# Altium schematic symbol library WR-WTB.SchLib: 242 symbols (part 5 of 5)
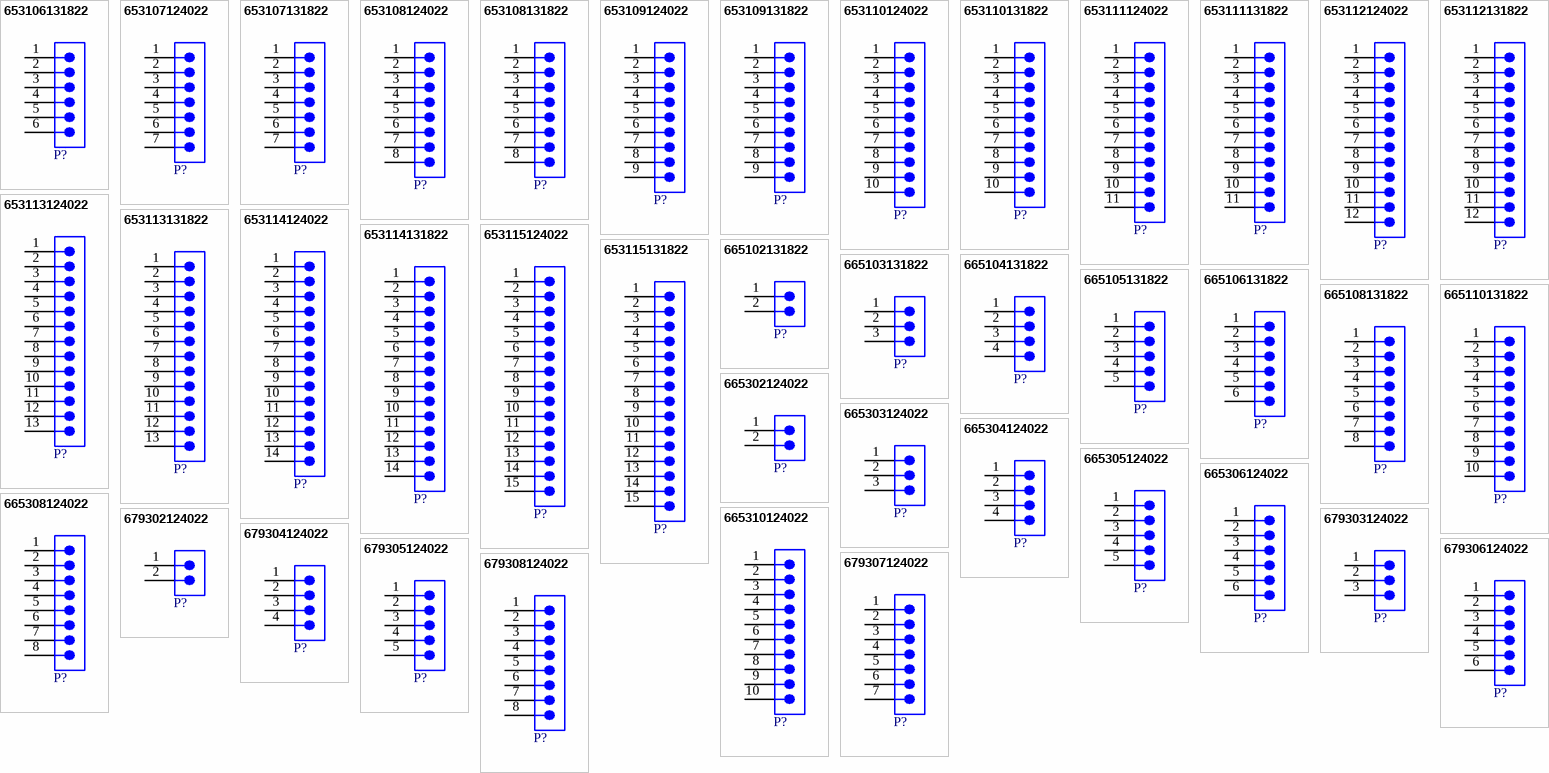
[diagram p10: symbols 653106131822 to 679308124022]

## 665108131822
designator P?  (value not drawn)
WR-WTB SMT Male Horizontal Shrouded Header, pitch 1mm, 8pins; Manufacturer: Wurth Elektronik; Contact Resistance: 20mΩ; Rated Current: 1A; Working Voltage: 50VAC; Withstanding Voltage: 500VAC; ComponentLink1Description: Website Link; ComponentLink1URL: https://www.we-online.com/redexpert/article/665108131822?ad; ComponentLink2Description: Datasheet Link; ComponentLink2URL: https://www.we-online.com/redexpert/spec/665108131822?ad; Manufacturer Part Number: 665108131822; Category: Wire-to-Board Connectors; Match Code: WR-WTB; Mount: Surface Mount; Operating Temperature Max: 85°C; Operating Temperature Min: -25°C; Packaging: Tape and Reel; Length: 10mm; Width: 4.95mm; Height: 2.9mm; Gender: Male; Number of Pins: 8; Number of Rows: 1; Orientation: Horizontal; Pitch: 1mm
footprint 665108131822
pins: 1, 2, 3, 4, 5, 6, 7, 8

## 665110131822
designator P?  (value not drawn)
WR-WTB SMT Male Horizontal Shrouded Header, pitch 1mm, 10pins; Manufacturer: Wurth Elektronik; Contact Resistance: 20mΩ; Rated Current: 1A; Working Voltage: 50VAC; Withstanding Voltage: 500VAC; ComponentLink1Description: Website Link; ComponentLink1URL: https://www.we-online.com/redexpert/article/665110131822?ad; ComponentLink2Description: Datasheet Link; ComponentLink2URL: https://www.we-online.com/redexpert/spec/665110131822?ad; Manufacturer Part Number: 665110131822; Category: Wire-to-Board Connectors; Match Code: WR-WTB; Mount: Surface Mount; Operating Temperature Max: 85°C; Operating Temperature Min: -25°C; Packaging: Tape and Reel; Length: 12mm; Width: 4.95mm; Height: 2.9mm; Gender: Male; Number of Pins: 10; Number of Rows: 1; Orientation: Horizontal; Pitch: 1mm
footprint 665110131822
pins: 1, 2, 3, 4, 5, 6, 7, 8, 9, 10

## 665302124022
designator P?  (value not drawn)
WR-WTB SMT Male Vertical Shrouded Header, pitch 1mm, 2pins; Manufacturer: Wurth Elektronik; Contact Resistance: 20mΩ; Rated Current: 1A; Working Voltage: 50VAC; Withstanding Voltage: 500VAC; ComponentLink1Description: Website Link; ComponentLink1URL: https://www.we-online.com/redexpert/article/665302124022?ad; ComponentLink2Description: Datasheet Link; ComponentLink2URL: https://www.we-online.com/redexpert/spec/665302124022?ad; Manufacturer Part Number: 665302124022; Category: Wire-to-Board Connectors; Match Code: WR-WTB; Mount: Surface Mount; Operating Temperature Max: 85°C; Operating Temperature Min: -25°C; Packaging: Tape and Reel; Length: 4mm; Width: 3.55mm; Height: 4.25mm; Gender: Male; Number of Pins: 2; Number of Rows: 1; Orientation: Vertical; Pitch: 1mm
footprint 665302124022
pins: 1, 2

## 665303124022
designator P?  (value not drawn)
WR-WTB SMT Male Vertical Shrouded Header, pitch 1mm, 3pins; Manufacturer: Wurth Elektronik; Contact Resistance: 20mΩ; Rated Current: 1A; Working Voltage: 50VAC; Withstanding Voltage: 500VAC; ComponentLink1Description: Website Link; ComponentLink1URL: https://www.we-online.com/redexpert/article/665303124022?ad; ComponentLink2Description: Datasheet Link; ComponentLink2URL: https://www.we-online.com/redexpert/spec/665303124022?ad; Manufacturer Part Number: 665303124022; Category: Wire-to-Board Connectors; Match Code: WR-WTB; Mount: Surface Mount; Operating Temperature Max: 85°C; Operating Temperature Min: -25°C; Packaging: Tape and Reel; Length: 5mm; Width: 3.55mm; Height: 4.25mm; Gender: Male; Number of Pins: 3; Number of Rows: 1; Orientation: Vertical; Pitch: 1mm
footprint 665303124022
pins: 1, 2, 3

## 665304124022
designator P?  (value not drawn)
WR-WTB SMT Male Vertical Shrouded Header, pitch 1mm, 4pins; Manufacturer: Wurth Elektronik; Contact Resistance: 20mΩ; Rated Current: 1A; Working Voltage: 50VAC; Withstanding Voltage: 500VAC; ComponentLink1Description: Website Link; ComponentLink1URL: https://www.we-online.com/redexpert/article/665304124022?ad; ComponentLink2Description: Datasheet Link; ComponentLink2URL: https://www.we-online.com/redexpert/spec/665304124022?ad; Manufacturer Part Number: 665304124022; Category: Wire-to-Board Connectors; Match Code: WR-WTB; Mount: Surface Mount; Operating Temperature Max: 85°C; Operating Temperature Min: -25°C; Packaging: Tape and Reel; Length: 6mm; Width: 3.55mm; Height: 4.25mm; Gender: Male; Number of Pins: 4; Number of Rows: 1; Orientation: Vertical; Pitch: 1mm
footprint 665304124022
pins: 1, 2, 3, 4

## 665305124022
designator P?  (value not drawn)
WR-WTB SMT Male Vertical Shrouded Header, pitch 1mm, 5pins; Manufacturer: Wurth Elektronik; Contact Resistance: 20mΩ; Rated Current: 1A; Working Voltage: 50VAC; Withstanding Voltage: 500VAC; ComponentLink1Description: Website Link; ComponentLink1URL: https://www.we-online.com/redexpert/article/665305124022?ad; ComponentLink2Description: Datasheet Link; ComponentLink2URL: https://www.we-online.com/redexpert/spec/665305124022?ad; Manufacturer Part Number: 665305124022; Category: Wire-to-Board Connectors; Match Code: WR-WTB; Mount: Surface Mount; Operating Temperature Max: 85°C; Operating Temperature Min: -25°C; Packaging: Tape and Reel; Length: 7mm; Width: 3.55mm; Height: 4.25mm; Gender: Male; Number of Pins: 5; Number of Rows: 1; Orientation: Vertical; Pitch: 1mm
footprint 665305124022
pins: 1, 2, 3, 4, 5

## 665306124022
designator P?  (value not drawn)
WR-WTB SMT Male Vertical Shrouded Header, pitch 1mm, 6pins; Manufacturer: Wurth Elektronik; Contact Resistance: 20mΩ; Rated Current: 1A; Working Voltage: 50VAC; Withstanding Voltage: 500VAC; ComponentLink1Description: Website Link; ComponentLink1URL: https://www.we-online.com/redexpert/article/665306124022?ad; ComponentLink2Description: Datasheet Link; ComponentLink2URL: https://www.we-online.com/redexpert/spec/665306124022?ad; Manufacturer Part Number: 665306124022; Category: Wire-to-Board Connectors; Match Code: WR-WTB; Mount: Surface Mount; Operating Temperature Max: 85°C; Operating Temperature Min: -25°C; Packaging: Tape and Reel; Length: 8mm; Width: 3.55mm; Height: 4.25mm; Gender: Male; Number of Pins: 6; Number of Rows: 1; Orientation: Vertical; Pitch: 1mm
footprint 665306124022
pins: 1, 2, 3, 4, 5, 6

## 665308124022
designator P?  (value not drawn)
WR-WTB SMT Male Vertical Shrouded Header, pitch 1mm, 8pins; Manufacturer: Wurth Elektronik; Contact Resistance: 20mΩ; Rated Current: 1A; Working Voltage: 50VAC; Withstanding Voltage: 500VAC; ComponentLink1Description: Website Link; ComponentLink1URL: https://www.we-online.com/redexpert/article/665308124022?ad; ComponentLink2Description: Datasheet Link; ComponentLink2URL: https://www.we-online.com/redexpert/spec/665308124022?ad; Manufacturer Part Number: 665308124022; Category: Wire-to-Board Connectors; Match Code: WR-WTB; Mount: Surface Mount; Operating Temperature Max: 85°C; Operating Temperature Min: -25°C; Packaging: Tape and Reel; Length: 10mm; Width: 3.55mm; Height: 4.25mm; Gender: Male; Number of Pins: 8; Number of Rows: 1; Orientation: Vertical; Pitch: 1mm
footprint 665308124022
pins: 1, 2, 3, 4, 5, 6, 7, 8

## 665310124022
designator P?  (value not drawn)
WR-WTB SMT Male Vertical Shrouded Header, pitch 1mm, 10pins; Manufacturer: Wurth Elektronik; Contact Resistance: 20mΩ; Rated Current: 1A; Working Voltage: 50VAC; Withstanding Voltage: 500VAC; ComponentLink1Description: Website Link; ComponentLink1URL: https://www.we-online.com/redexpert/article/665310124022?ad; ComponentLink2Description: Datasheet Link; ComponentLink2URL: https://www.we-online.com/redexpert/spec/665310124022?ad; Manufacturer Part Number: 665310124022; Category: Wire-to-Board Connectors; Match Code: WR-WTB; Mount: Surface Mount; Operating Temperature Max: 85°C; Operating Temperature Min: -25°C; Packaging: Tape and Reel; Length: 12mm; Width: 3.55mm; Height: 4.25mm; Gender: Male; Number of Pins: 10; Number of Rows: 1; Orientation: Vertical; Pitch: 1mm
footprint 665310124022
pins: 1, 2, 3, 4, 5, 6, 7, 8, 9, 10

## 679302124022
designator P?  (value not drawn)
WR-WTB SMT Male Vertical Shrouded Header, pitch 1.5mm, 2pins; Manufacturer: Wurth Elektronik; Contact Resistance: 20mΩ; Rated Current: 1A; Working Voltage: 50VAC; Withstanding Voltage: 500VAC; ComponentLink1Description: Website Link; ComponentLink1URL: https://www.we-online.com/redexpert/article/679302124022?ad; ComponentLink2Description: Datasheet Link; ComponentLink2URL: https://www.we-online.com/redexpert/spec/679302124022?ad; Manufacturer Part Number: 679302124022; Category: Wire-to-Board Connectors; Match Code: WR-WTB; Mount: Surface Mount; Operating Temperature Max: 85°C; Operating Temperature Min: -25°C; Packaging: Tape and Reel; Length: 6mm; Width: 5.2mm; Height: 3.7mm; Gender: Male; Number of Pins: 2; Number of Rows: 1; Orientation: Vertical; Pitch: 1.5mm
footprint 679302124022
pins: 1, 2

## 679303124022
designator P?  (value not drawn)
WR-WTB SMT Male Vertical Shrouded Header, pitch 1.5mm, 3pins; Manufacturer: Wurth Elektronik; Contact Resistance: 20mΩ; Rated Current: 1A; Working Voltage: 50VAC; Withstanding Voltage: 500VAC; ComponentLink1Description: Website Link; ComponentLink1URL: https://www.we-online.com/redexpert/article/679303124022?ad; ComponentLink2Description: Datasheet Link; ComponentLink2URL: https://www.we-online.com/redexpert/spec/679303124022?ad; Manufacturer Part Number: 679303124022; Category: Wire-to-Board Connectors; Match Code: WR-WTB; Mount: Surface Mount; Operating Temperature Max: 85°C; Operating Temperature Min: -25°C; Packaging: Tape and Reel; Length: 7.5mm; Width: 5.2mm; Height: 3.7mm; Gender: Male; Number of Pins: 3; Number of Rows: 1; Orientation: Vertical; Pitch: 1.5mm
footprint 679303124022
pins: 1, 2, 3

## 679304124022
designator P?  (value not drawn)
WR-WTB SMT Male Vertical Shrouded Header, pitch 1.5mm, 4pins; Manufacturer: Wurth Elektronik; Contact Resistance: 20mΩ; Rated Current: 1A; Working Voltage: 50VAC; Withstanding Voltage: 500VAC; ComponentLink1Description: Website Link; ComponentLink1URL: https://www.we-online.com/redexpert/article/679304124022?ad; ComponentLink2Description: Datasheet Link; ComponentLink2URL: https://www.we-online.com/redexpert/spec/679304124022?ad; Manufacturer Part Number: 679304124022; Category: Wire-to-Board Connectors; Match Code: WR-WTB; Mount: Surface Mount; Operating Temperature Max: 85°C; Operating Temperature Min: -25°C; Packaging: Tape and Reel; Length: 9mm; Width: 5.2mm; Height: 3.7mm; Gender: Male; Number of Pins: 4; Number of Rows: 1; Orientation: Vertical; Pitch: 1.5mm
footprint 679304124022
pins: 1, 2, 3, 4

## 679305124022
designator P?  (value not drawn)
WR-WTB SMT Male Vertical Shrouded Header, pitch 1.5mm, 5pins; Manufacturer: Wurth Elektronik; Contact Resistance: 20mΩ; Rated Current: 1A; Working Voltage: 50VAC; Withstanding Voltage: 500VAC; ComponentLink1Description: Website Link; ComponentLink1URL: https://www.we-online.com/redexpert/article/679305124022?ad; ComponentLink2Description: Datasheet Link; ComponentLink2URL: https://www.we-online.com/redexpert/spec/679305124022?ad; Manufacturer Part Number: 679305124022; Category: Wire-to-Board Connectors; Match Code: WR-WTB; Mount: Surface Mount; Operating Temperature Max: 85°C; Operating Temperature Min: -25°C; Packaging: Tape and Reel; Length: 10.5mm; Width: 5.2mm; Height: 3.7mm; Gender: Male; Number of Pins: 5; Number of Rows: 1; Orientation: Vertical; Pitch: 1.5mm
footprint 679305124022
pins: 1, 2, 3, 4, 5

## 679306124022
designator P?  (value not drawn)
WR-WTB SMT Male Vertical Shrouded Header, pitch 1.5mm, 6pins; Manufacturer: Wurth Elektronik; Contact Resistance: 20mΩ; Rated Current: 1A; Working Voltage: 50VAC; Withstanding Voltage: 500VAC; ComponentLink1Description: Website Link; ComponentLink1URL: https://www.we-online.com/redexpert/article/679306124022?ad; ComponentLink2Description: Datasheet Link; ComponentLink2URL: https://www.we-online.com/redexpert/spec/679306124022?ad; Manufacturer Part Number: 679306124022; Category: Wire-to-Board Connectors; Match Code: WR-WTB; Mount: Surface Mount; Operating Temperature Max: 85°C; Operating Temperature Min: -25°C; Packaging: Tape and Reel; Length: 12mm; Width: 5.2mm; Height: 3.7mm; Gender: Male; Number of Pins: 6; Number of Rows: 1; Orientation: Vertical; Pitch: 1.5mm
footprint 679306124022
pins: 1, 2, 3, 4, 5, 6

## 679307124022
designator P?  (value not drawn)
WR-WTB SMT Male Vertical Shrouded Header, pitch 1.5mm, 7pins; Manufacturer: Wurth Elektronik; Contact Resistance: 20mΩ; Rated Current: 1A; Working Voltage: 50VAC; Withstanding Voltage: 500VAC; ComponentLink1Description: Website Link; ComponentLink1URL: https://www.we-online.com/redexpert/article/679307124022?ad; ComponentLink2Description: Datasheet Link; ComponentLink2URL: https://www.we-online.com/redexpert/spec/679307124022?ad; Manufacturer Part Number: 679307124022; Category: Wire-to-Board Connectors; Match Code: WR-WTB; Mount: Surface Mount; Operating Temperature Max: 85°C; Operating Temperature Min: -25°C; Packaging: Tape and Reel; Length: 13.5mm; Width: 5.2mm; Height: 3.7mm; Gender: Male; Number of Pins: 7; Number of Rows: 1; Orientation: Vertical; Pitch: 1.5mm
footprint 679307124022
pins: 1, 2, 3, 4, 5, 6, 7

## 679308124022
designator P?  (value not drawn)
WR-WTB SMT Male Vertical Shrouded Header, pitch 1.5mm, 8pins; Manufacturer: Wurth Elektronik; Contact Resistance: 20mΩ; Rated Current: 1A; Working Voltage: 50VAC; Withstanding Voltage: 500VAC; ComponentLink1Description: Website Link; ComponentLink1URL: https://www.we-online.com/redexpert/article/679308124022?ad; ComponentLink2Description: Datasheet Link; ComponentLink2URL: https://www.we-online.com/redexpert/spec/679308124022?ad; Manufacturer Part Number: 679308124022; Category: Wire-to-Board Connectors; Match Code: WR-WTB; Mount: Surface Mount; Operating Temperature Max: 85°C; Operating Temperature Min: -25°C; Packaging: Tape and Reel; Length: 15mm; Width: 5.2mm; Height: 3.7mm; Gender: Male; Number of Pins: 8; Number of Rows: 1; Orientation: Vertical; Pitch: 1.5mm
footprint 679308124022
pins: 1, 2, 3, 4, 5, 6, 7, 8

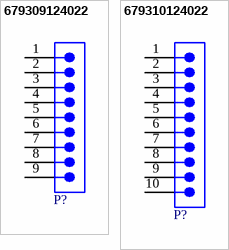
[diagram p6: symbols 679309124022 to 679310124022]

## 679309124022
designator P?  (value not drawn)
WR-WTB SMT Male Vertical Shrouded Header, pitch 1.5mm, 9pins; Manufacturer: Wurth Elektronik; Contact Resistance: 20mΩ; Rated Current: 1A; Working Voltage: 50VAC; Withstanding Voltage: 500VAC; ComponentLink1Description: Website Link; ComponentLink1URL: https://www.we-online.com/redexpert/article/679309124022?ad; ComponentLink2Description: Datasheet Link; ComponentLink2URL: https://www.we-online.com/redexpert/spec/679309124022?ad; Manufacturer Part Number: 679309124022; Category: Wire-to-Board Connectors; Match Code: WR-WTB; Mount: Surface Mount; Operating Temperature Max: 85°C; Operating Temperature Min: -25°C; Packaging: Tape and Reel; Length: 16.5mm; Width: 5.2mm; Height: 3.7mm; Gender: Male; Number of Pins: 9; Number of Rows: 1; Orientation: Vertical; Pitch: 1.5mm
footprint 679309124022
pins: 1, 2, 3, 4, 5, 6, 7, 8, 9

## 679310124022
designator P?  (value not drawn)
WR-WTB SMT Male Vertical Shrouded Header, pitch 1.5mm, 10pins; Manufacturer: Wurth Elektronik; Contact Resistance: 20mΩ; Rated Current: 1A; Working Voltage: 50VAC; Withstanding Voltage: 500VAC; ComponentLink1Description: Website Link; ComponentLink1URL: https://www.we-online.com/redexpert/article/679310124022?ad; ComponentLink2Description: Datasheet Link; ComponentLink2URL: https://www.we-online.com/redexpert/spec/679310124022?ad; Manufacturer Part Number: 679310124022; Category: Wire-to-Board Connectors; Match Code: WR-WTB; Mount: Surface Mount; Operating Temperature Max: 85°C; Operating Temperature Min: -25°C; Packaging: Tape and Reel; Length: 18mm; Width: 5.2mm; Height: 3.7mm; Gender: Male; Number of Pins: 10; Number of Rows: 1; Orientation: Vertical; Pitch: 1.5mm
footprint 679310124022
pins: 1, 2, 3, 4, 5, 6, 7, 8, 9, 10